# Altium schematic symbol library Display.SchLib: 1 symbol
Pins are listed as number, name and electrical type; pins without a type are passive.

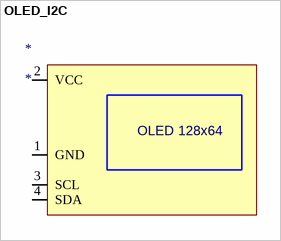
[diagram p0: symbol OLED_I2C]

## OLED_I2C
designator *
pins: 1 GND, 2 VCC, 3 SCL, 4 SDA
text: OLED 128x64